# Altium schematic symbol library 电源IC.SchLib: 11 symbols
Pins are listed as number, name and electrical type; pins without a type are passive.

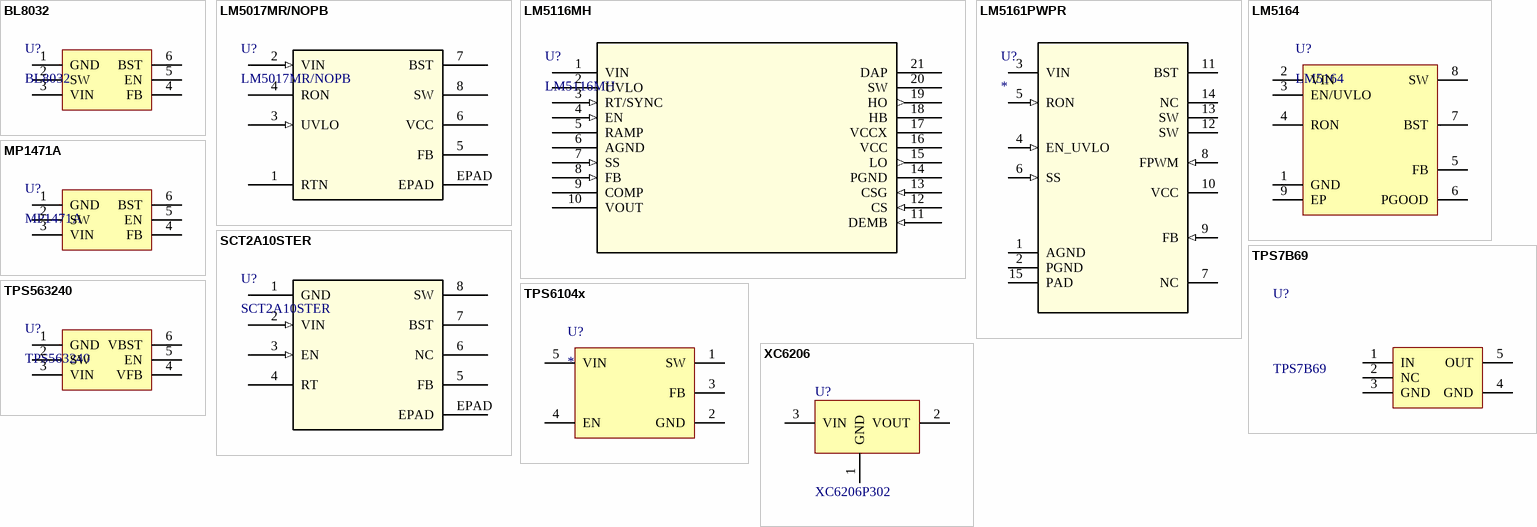
[diagram p0: symbols BL8032 to XC6206]

## BL8032
designator U?
4.5-18V输入 DC-DC Buck 芯片
footprint SOT23-6L (SOT23, 6-Leads, Body 2.9x1.6mm, Pitch 0.95mm, Lead Span 2.7mm, IPC High Density)
pins: 1 GND (power), 2 SW (power), 3 VIN (power), 4 FB (power), 5 EN (power), 6 BST (power)

## LM5017MR/NOPB
designator U?
No Description Available; Mfr_Name: Texas Instruments; Copyright: Copyright (C) 2021 Ultra Librarian. All rights reserved.; Manufacturer_Part_Number: LM5017MR/NOPB; RefDes: RefDes; Type: DEV
footprint DDA8_3P1X2P41-L
pins: 1 RTN (power), 2 VIN (in), 3 UVLO (in), 4 RON, 5 FB, 6 VCC (power), 7 BST, 8 SW, EPAD

## LM5116MH
designator U?
No Description Available; Mfr_Name: Texas Instruments; Copyright: Copyright (C) 2021 Ultra Librarian. All rights reserved.; Manufacturer_Part_Number: LM5116MH; RefDes: RefDes; Type: DEV
footprint MXA20A_TEX-L
pins: 1 VIN (power), 2 UVLO, 3 RT/SYNC (in), 4 EN (in), 5 RAMP, 6 AGND (power), 7 SS (in), 8 FB (in), 9 COMP, 10 VOUT, 11 DEMB (in), 12 CS (in), 13 CSG (in), 14 PGND (power), 15 LO (out), 16 VCC (power), 17 VCCX (power), 18 HB, 19 HO (out), 20 SW (power), 21 DAP (power)

## LM5161PWPR
designator U?
100V输入 1A输出 Fly-Buck; PartNumber: LM5161PWPR; Manufacturer: Texas Instruments; RefDes: RefDes; Type: DEV; Value: Value; Copyright: Copyright (C) 2021 Accelerated Designs. All rights reserved
footprint HTSSOP-14
pins: 1 AGND (power), 2 PGND (power), 3 VIN (power), 4 EN_UVLO (in), 5 RON (in), 6 SS (in), 7 NC, 8 FPWM (in), 9 FB (in), 10 VCC (power), 11 BST (power), 12 SW (power), 13 SW (power), 14 NC, 15 PAD (power)

## LM5164
designator U?
100V输入 1A输出 DC/DC转换
footprint SOPowePAD-8
pins: 1 GND, 2 VIN, 3 EN/UVLO, 4 RON, 5 FB, 6 PGOOD, 7 BST, 8 SW (power), 9 EP (power)

## MP1471A
designator U?
4.5-16V输入 DC-DC Buck 芯片
footprint SOT23-6L (SOT23, 6-Leads, Body 2.9x1.6mm, Pitch 0.95mm, Lead Span 2.7mm, IPC High Density)
pins: 1 GND (power), 2 SW (power), 3 VIN (power), 4 FB (power), 5 EN (power), 6 BST (power)

## SCT2A10STER
designator U?
No Description Available; Manufacturer_Part_Number: SCT2A10STER
footprint DDA8_3P1X2P41-L
pins: 1 GND (power), 2 VIN (in), 3 EN (in), 4 RT, 5 FB, 6 NC (power), 7 BST, 8 SW, EPAD

## TPS7B69
designator U?
footprint SOT23-5L
pins: 1 IN (power), 2 NC (power), 3 GND (power), 4 GND (power), 5 OUT (power)

## TPS6104x
designator U?
Boost DC-DC
footprint SOT23-5L
pins: 1 SW, 2 GND, 3 FB, 4 EN, 5 VIN

## TPS563240
designator U?
footprint SOT23-6L (SOT23, 6-Leads, Body 2.9x1.6mm, Pitch 0.95mm, Lead Span 2.7mm, IPC High Density)
pins: 1 GND (power), 2 SW (power), 3 VIN (power), 4 VFB (power), 5 EN (power), 6 VBST (power)

## XC6206
designator U?, comment XC6206P302
VIN < 6V
footprint SOT23-3L (SOT23, 3-Leads, Body 2.9x1.3mm, Pitch 0.95mm, Lead Span 2.3mm - Reverse Pinning, IPC High Density)
pins: 1 GND, 2 VOUT, 3 VIN